# Altium footprint library SOT753.PcbLib: 1 footprints
Each footprint in its own frame and in the unit in brackets; x right, y up, seen from the top. Pads: shape width x height; smd on the part's side, far side on the other; paste and mask are expansions set on the pad; w line width, h text height; cw(c..) or ccw(c..) is an arc to the next point about the centre after c.
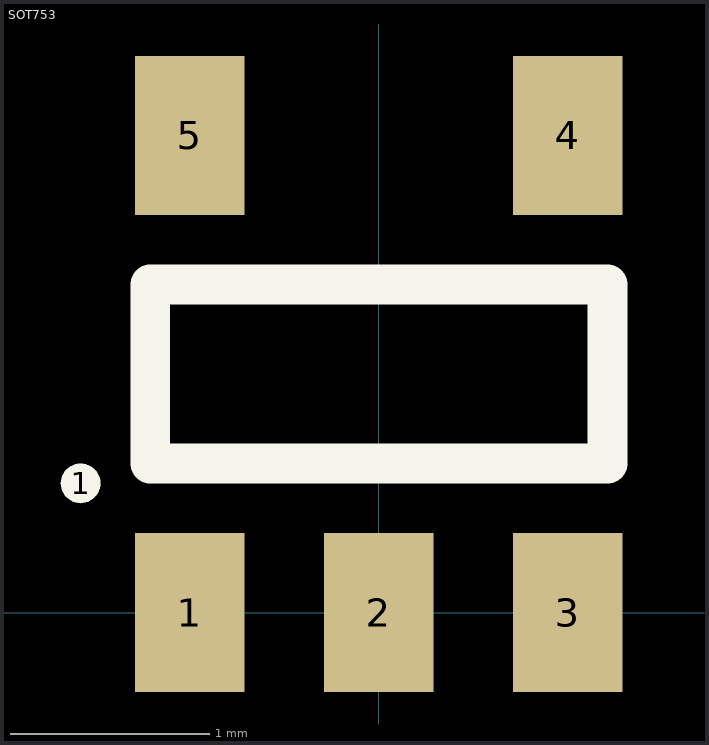
[diagram p0: the footprint, top view; thin cyan lines are the x and y axes]

## SOT753 [mm] "SOT753"
pads (6):
  round 0.2 on Top Overlay: 1(-1.5,0.65)
  rect 0.55x0.8 smd: 1(-0.95,0) 2(0,0) 3(0.95,0) 4(0.95,2.4) 5(-0.95,2.4)
Top Overlay:
  lines w0.2: -1.15,0.75 -1.15,1.65 1.15,1.65 1.15,0.75 -1.15,0.75